# Altium footprint library DO-219AB.PcbLib: 1 footprints
Each footprint in its own frame and in the unit in brackets; x right, y up, seen from the top. Pads: shape width x height; smd on the part's side, far side on the other; paste and mask are expansions set on the pad; w line width, h text height; cw(c..) or ccw(c..) is an arc to the next point about the centre after c.
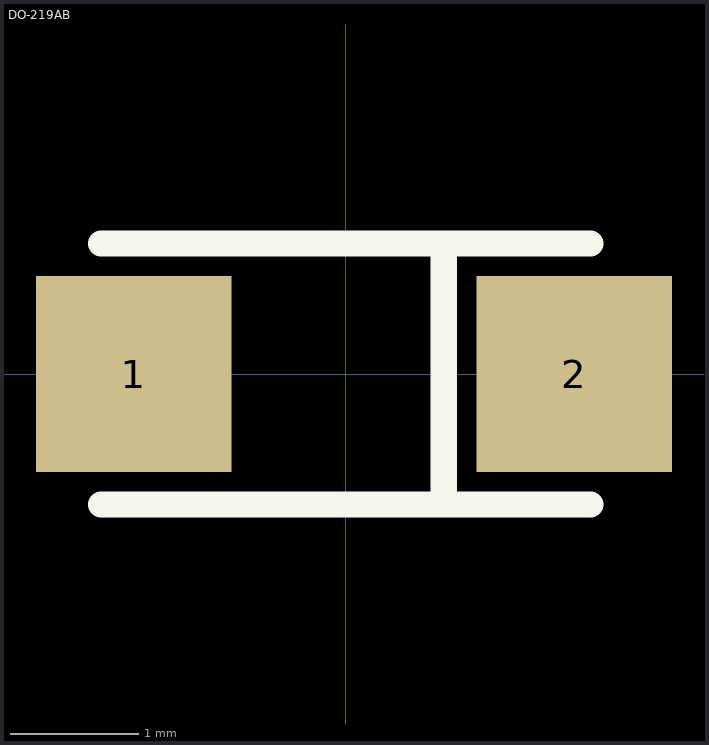
[diagram p0: the footprint, top view; thin cyan lines are the x and y axes]

## DO-219AB [mil]
pads (2):
  rect 60x60 smd: 1(-65,0) 2(70,0)
Top Overlay:
  lines w8: -75,-40 75,-40 ; -75,40 75,40 ; 30,-40 30,40
3D body: height 49.25, standoff 0, extent -76.77,-37.4 76.77,37.4